# Altium footprint library MAX14930DASE+.PcbLib: 1 footprints
Each footprint in its own frame and in the unit in brackets; x right, y up, seen from the top. Pads: shape width x height; smd on the part's side, far side on the other; paste and mask are expansions set on the pad; w line width, h text height; cw(c..) or ccw(c..) is an arc to the next point about the centre after c.
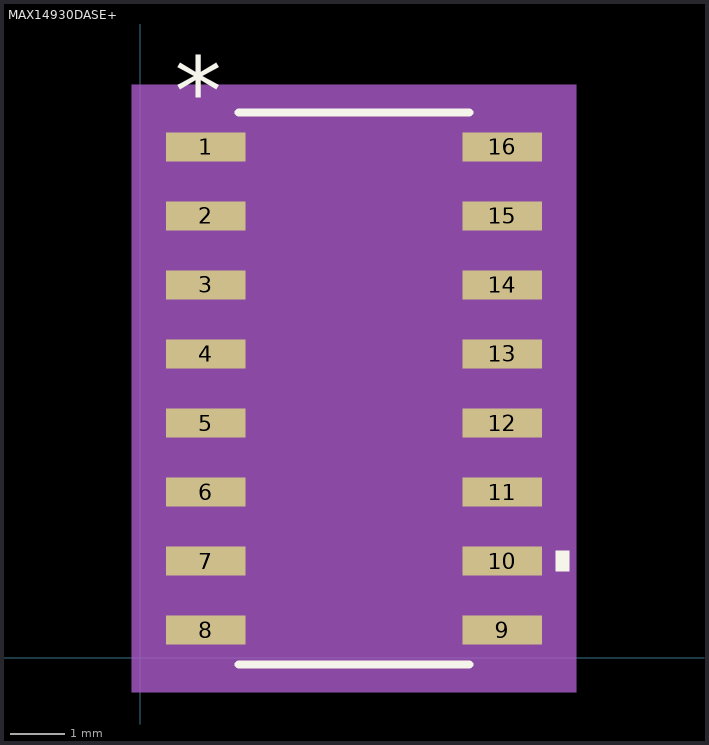
[diagram p0: the footprint, top view; thin cyan lines are the x and y axes]

## MAX14930DASE+ [mil]
pads (16):
  rect 57.55x21 smd paste+0 mask+0: 1(47.73,370) 2(47.73,320) 3(47.73,270) 4(47.73,220) 5(47.73,170) 6(47.73,120) 7(47.73,70) 8(47.73,20) 9(262.27,20) 10(262.27,70) 11(262.27,120) 12(262.27,170) 13(262.27,220) 14(262.27,270) 15(262.27,320) 16(262.27,370)
Top Overlay:
  region: 301.05,77.5 311.05,77.5 311.05,62.5 301.05,62.5
  lines w6: 71.5,-5 238.5,-5 ; 71.5,395 238.5,395
  text "*" at 25.23,386 h50
Mechanical 5:
  region: 316.05,-25 -6.05,-25 -6.05,415 316.05,415
Mechanical 13:
  lines w0: 143,390 ccw(c155,390) 167,390
  lines w1: 32.95,10.5 76.5,10.5 76.5,29.5 32.95,29.5 32.95,10.5 ; 32.95,60.5 76.5,60.5 76.5,79.5 32.95,79.5 32.95,60.5 ; 32.95,110.5 76.5,110.5 76.5,129.5 32.95,129.5 32.95,110.5 ; 32.95,160.5 76.5,160.5 76.5,179.5 32.95,179.5 32.95,160.5 ; 32.95,210.5 76.5,210.5 76.5,229.5 32.95,229.5 32.95,210.5 ; 32.95,260.5 76.5,260.5 76.5,279.5 32.95,279.5 32.95,260.5 ; 32.95,310.5 76.5,310.5 76.5,329.5 32.95,329.5 32.95,310.5 ; 32.95,360.5 76.5,360.5 76.5,379.5 32.95,379.5 32.95,360.5 ; 76.5,0 76.5,390 233.5,390 233.5,0 76.5,0 ; 233.5,10.5 277.05,10.5 277.05,29.5 233.5,29.5 233.5,10.5 ; 233.5,60.5 277.05,60.5 277.05,79.5 233.5,79.5 233.5,60.5 ; 233.5,110.5 277.05,110.5 277.05,129.5 233.5,129.5 233.5,110.5 ; 233.5,160.5 277.05,160.5 277.05,179.5 233.5,179.5 233.5,160.5 ; 233.5,210.5 277.05,210.5 277.05,229.5 233.5,229.5 233.5,210.5 ; 233.5,260.5 277.05,260.5 277.05,279.5 233.5,279.5 233.5,260.5 ; 233.5,310.5 277.05,310.5 277.05,329.5 233.5,329.5 233.5,310.5 ; 233.5,360.5 277.05,360.5 277.05,379.5 233.5,379.5 233.5,360.5
  text "*" at 79,337 h50
Mechanical 15:
  region: 66.5,-0.5 8.95,-0.5 8.95,390.5 66.5,390.5 66.5,400 243.5,400 243.5,390.5 301.05,390.5 301.05,-0.5 243.5,-0.5 243.5,-10 66.5,-10
  lines w6: 8.95,-0.5 66.5,-0.5 66.5,-10 243.5,-10 243.5,-0.5 301.05,-0.5 301.05,390.5 243.5,390.5 243.5,400 66.5,400 66.5,390.5 8.95,390.5 8.95,-0.5
3D body "21-0041_S16+1_MXM.step": height 69.09, standoff 0, extent 32.95,0 277.05,390